# Altium schematic symbol library Simbolos.SchLib: 10 symbols
Pins are listed as number, name and electrical type; pins without a type are passive.

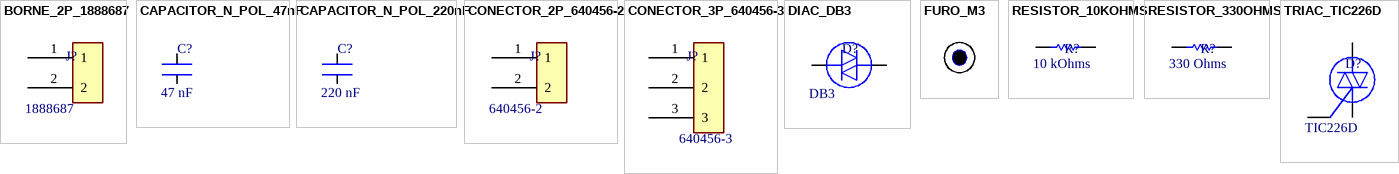
[diagram p0: symbols BORNE_2P_1888687 to TRIAC_TIC226D]

## BORNE_2P_1888687
designator J?  PartNumber: 1888687
footprint 1888687
pins: 1, 2

## CAPACITOR_N_POL_47nF
designator C?  value 47 nF
footprint CERAMIC_CAPACITOR_GENERIC_PTH
pins: 1, 2

## CAPACITOR_N_POL_220nF
designator C?  value 220 nF
footprint CERAMIC_CAPACITOR_GENERIC_PTH
pins: 1, 2

## CONECTOR_2P_640456-2
designator J?  PartNumber: 640456-2
footprint 640456-2
pins: 1, 2

## CONECTOR_3P_640456-3
designator J?  PartNumber: 640456-3
footprint 640456-3
pins: 1, 2, 3

## DIAC_DB3
designator D?  PartNumber: DB3
footprint DO-35
pins: 1, 2

## FURO_M3
designator HOLE?
footprint FURO_M3

## RESISTOR_10KOHMS
designator R?  value 10 kOhms
footprint RESISTOR_1-4_PTH
pins: 1, 2
1 alternate drawing of the same symbol

## RESISTOR_330OHMS
designator R?  value 330 Ohms
footprint RESISTOR_1-4_PTH
pins: 1, 2
1 alternate drawing of the same symbol

## TRIAC_TIC226D
designator D?  PartNumber: TIC226D
footprint TO-220
pins: 1, 2, 3